# EAGLE library part DRV8316RRGFR (library MF_IC_Power)
One of TI's 3 phase motor drivers: internal FETs
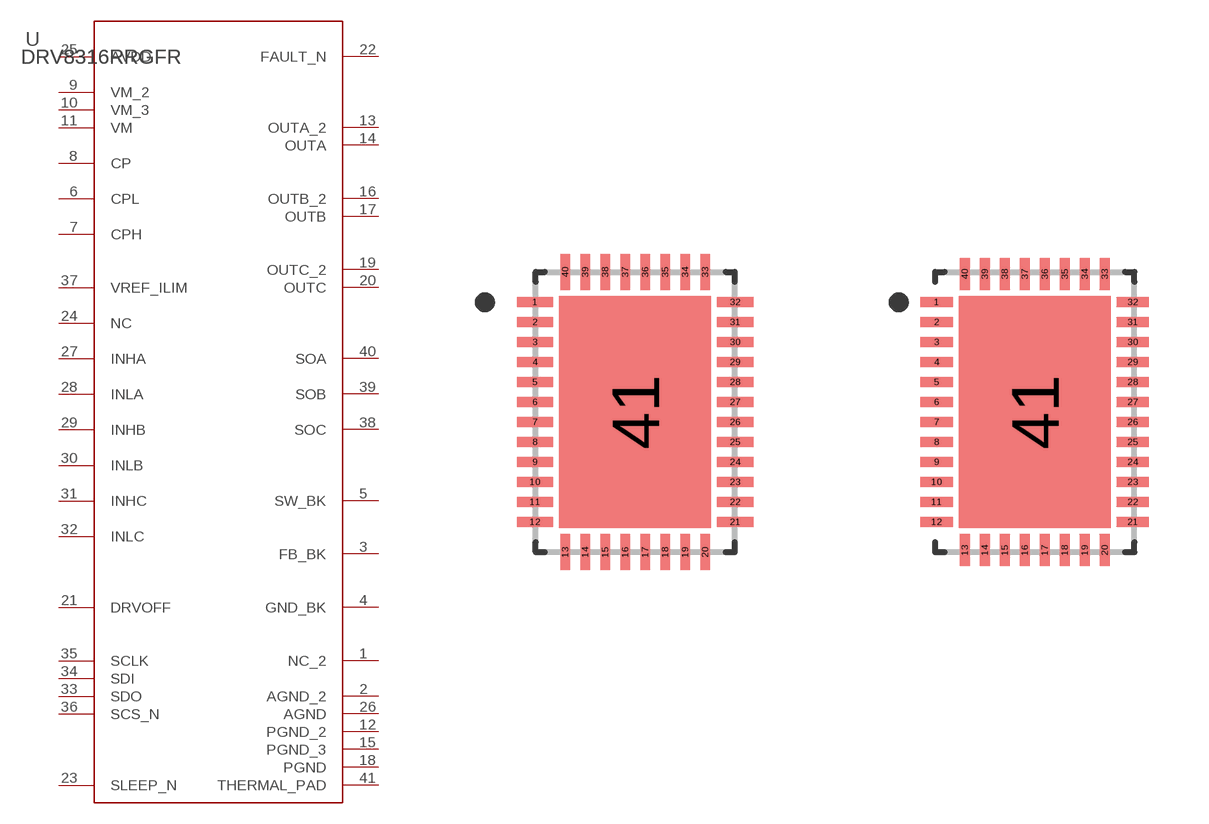
[diagram p2: symbol with the pads of RGF0040E-IPC_A; footprints RGF0040E-IPC_A, RGF0040E-IPC_B]

Designator prefix U

## DRV8316RRGFR (COPYRIGHT: Copyright (C) 2025 Ultra Librarian. All rights reserved.; MANUFACTURER_PART_NUMBER: DRV8316RRGFR; MFR_NAME: Texas Instruments; REFDES: RefDes; TYPE: TYPE)  [RGF0040E-IPC_A]
1  NC_2  pas
2  AGND_2  pwr
3  FB_BK  pas
4  GND_BK  pwr
5  SW_BK  pas
6  CPL  pas
7  CPH  pas
8  CP  pas
9  VM_2  pwr
10  VM_3  pwr
11  VM  pwr
12  PGND_2  pwr
13  OUTA_2  pas
14  OUTA  pas
15  PGND_3  pwr
16  OUTB_2  pas
17  OUTB  pas
18  PGND  pwr
19  OUTC_2  pas
20  OUTC  pas
21  DRVOFF  in
22  FAULT_N  oc
23  SLEEP_N  in
24  NC  pas
25  AVDD  pwr
26  AGND  pwr
27  INHA  in
28  INLA  in
29  INHB  in
30  INLB  in
31  INHC  in
32  INLC  in
33  SDO  out
34  SDI  in
35  SCLK  in
36  SCS_N  in
37  VREF_ILIM  pas
38  SOC  pas
39  SOB  pas
40  SOA  pas
41  THERMAL_PAD  pwr

## DRV8316RRGFRRGF0040E-IPC_B (COPYRIGHT: Copyright (C) 2025 Ultra Librarian. All rights reserved.; MANUFACTURER_PART_NUMBER: DRV8316RRGFR; MFR_NAME: Texas Instruments; REFDES: RefDes; TYPE: TYPE)  [RGF0040E-IPC_B]
Pads as for RGF0040E-IPC_A

## DRV8316RRGFRRGF0040E-IPC_C (COPYRIGHT: Copyright (C) 2025 Ultra Librarian. All rights reserved.; MANUFACTURER_PART_NUMBER: DRV8316RRGFR; MFR_NAME: Texas Instruments; REFDES: RefDes; TYPE: TYPE)  [RGF0040E-IPC_C]
Pads as for RGF0040E-IPC_A

## DRV8316RRGFRRGF0040E-MFG (COPYRIGHT: Copyright (C) 2025 Ultra Librarian. All rights reserved.; MANUFACTURER_PART_NUMBER: DRV8316RRGFR; MFR_NAME: Texas Instruments; REFDES: RefDes; TYPE: TYPE)  [RGF0040E-MFG]
Pads as for RGF0040E-IPC_A

## Footprint RGF0040E-IPC_A (pad centres in mm)
smd 0.906 x 0.242: 1 -2.503,2.75; 2 -2.503,2.25; 3 -2.503,1.75; 4 -2.503,1.25; 5 -2.503,0.75; 6 -2.503,0.25; 7 -2.503,-0.25; 8 -2.503,-0.75; 9 -2.503,-1.25; 10 -2.503,-1.75; 11 -2.503,-2.25; 12 -2.503,-2.75; 21 2.503,-2.75; 22 2.503,-2.25; 23 2.503,-1.75; 24 2.503,-1.25; 25 2.503,-0.75; 26 2.503,-0.25; 27 2.503,0.25; 28 2.503,0.75; 29 2.503,1.25; 30 2.503,1.75; 31 2.503,2.25; 32 2.503,2.75
smd 0.242 x 0.906: 13 -1.75,-3.503; 14 -1.25,-3.503; 15 -0.75,-3.503; 16 -0.25,-3.503; 17 0.25,-3.503; 18 0.75,-3.503; 19 1.25,-3.503; 20 1.75,-3.503; 33 1.75,3.503; 34 1.25,3.503; 35 0.75,3.503; 36 0.25,3.503; 37 -0.25,3.503; 38 -0.75,3.503; 39 -1.25,3.503; 40 -1.75,3.503
smd 3.8 x 5.8: 41 0,0

## Footprint RGF0040E-IPC_B (pad centres in mm)
smd 0.806 x 0.242: 1 -2.453,2.75; 2 -2.453,2.25; 3 -2.453,1.75; 4 -2.453,1.25; 5 -2.453,0.75; 6 -2.453,0.25; 7 -2.453,-0.25; 8 -2.453,-0.75; 9 -2.453,-1.25; 10 -2.453,-1.75; 11 -2.453,-2.25; 12 -2.453,-2.75; 21 2.453,-2.75; 22 2.453,-2.25; 23 2.453,-1.75; 24 2.453,-1.25; 25 2.453,-0.75; 26 2.453,-0.25; 27 2.453,0.25; 28 2.453,0.75; 29 2.453,1.25; 30 2.453,1.75; 31 2.453,2.25; 32 2.453,2.75
smd 0.242 x 0.806: 13 -1.75,-3.453; 14 -1.25,-3.453; 15 -0.75,-3.453; 16 -0.25,-3.453; 17 0.25,-3.453; 18 0.75,-3.453; 19 1.25,-3.453; 20 1.75,-3.453; 33 1.75,3.453; 34 1.25,3.453; 35 0.75,3.453; 36 0.25,3.453; 37 -0.25,3.453; 38 -0.75,3.453; 39 -1.25,3.453; 40 -1.75,3.453
smd 3.8 x 5.8: 41 0,0

## Footprint RGF0040E-IPC_C (pad centres in mm)
smd 0.706 x 0.242: 1 -2.403,2.75; 2 -2.403,2.25; 3 -2.403,1.75; 4 -2.403,1.25; 5 -2.403,0.75; 6 -2.403,0.25; 7 -2.403,-0.25; 8 -2.403,-0.75; 9 -2.403,-1.25; 10 -2.403,-1.75; 11 -2.403,-2.25; 12 -2.403,-2.75; 21 2.403,-2.75; 22 2.403,-2.25; 23 2.403,-1.75; 24 2.403,-1.25; 25 2.403,-0.75; 26 2.403,-0.25; 27 2.403,0.25; 28 2.403,0.75; 29 2.403,1.25; 30 2.403,1.75; 31 2.403,2.25; 32 2.403,2.75
smd 0.242 x 0.706: 13 -1.75,-3.403; 14 -1.25,-3.403; 15 -0.75,-3.403; 16 -0.25,-3.403; 17 0.25,-3.403; 18 0.75,-3.403; 19 1.25,-3.403; 20 1.75,-3.403; 33 1.75,3.403; 34 1.25,3.403; 35 0.75,3.403; 36 0.25,3.403; 37 -0.25,3.403; 38 -0.75,3.403; 39 -1.25,3.403; 40 -1.75,3.403
smd 3.8 x 5.8: 41 0,0

## Footprint RGF0040E-MFG (pad centres in mm)
smd 0.6 x 0.25: 1 -2.4,2.75; 2 -2.4,2.25; 3 -2.4,1.75; 4 -2.4,1.25; 5 -2.4,0.75; 6 -2.4,0.25; 7 -2.4,-0.25; 8 -2.4,-0.75; 9 -2.4,-1.25; 10 -2.4,-1.75; 11 -2.4,-2.25; 12 -2.4,-2.75; 21 2.4,-2.75; 22 2.4,-2.25; 23 2.4,-1.75; 24 2.4,-1.25; 25 2.4,-0.75; 26 2.4,-0.25; 27 2.4,0.25; 28 2.4,0.75; 29 2.4,1.25; 30 2.4,1.75; 31 2.4,2.25; 32 2.4,2.75
smd 0.25 x 0.6: 13 -1.75,-3.4; 14 -1.25,-3.4; 15 -0.75,-3.4; 16 -0.25,-3.4; 17 0.25,-3.4; 18 0.75,-3.4; 19 1.25,-3.4; 20 1.75,-3.4; 33 1.75,3.4; 34 1.25,3.4; 35 0.75,3.4; 36 0.25,3.4; 37 -0.25,3.4; 38 -0.75,3.4; 39 -1.25,3.4; 40 -1.75,3.4
smd 3.7 x 5.7: 41 0,0